# EAGLE library part UA9638CP (library copied_new_footprints)
DIFFERENTIAL LINE DRIVER
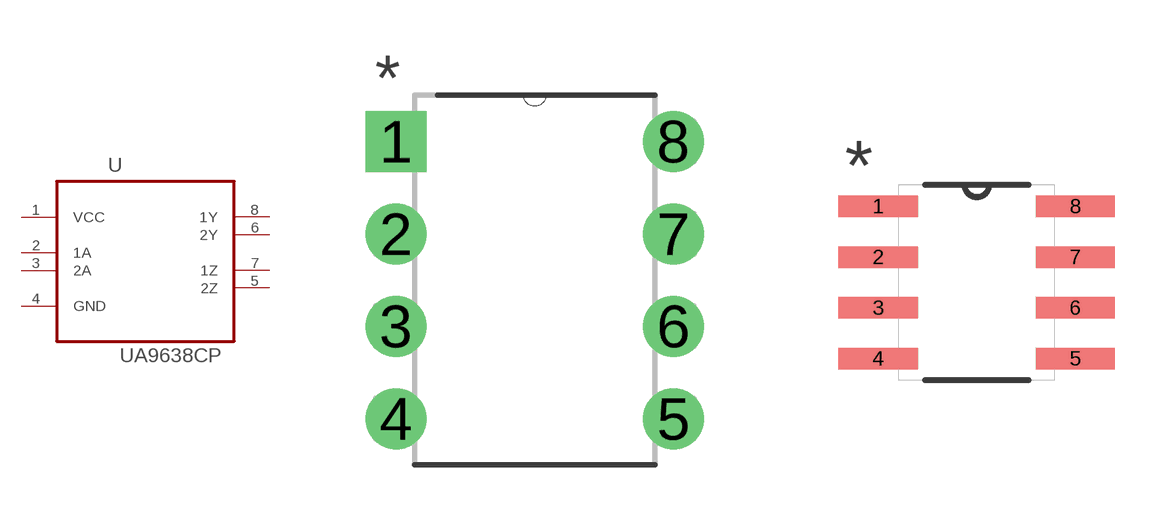
[diagram p1: symbol with the pads of DIP254P762X508-8; footprints DIP254P762X508-8, SOIC127P600X272-8N]

Designator prefix U

## UA9638CPDIP (MPN: UA9638CP; OC_FARNELL: -; OC_NEWARK: 60K7047; PACKAGE: PDIP; SUPPLIER: Texas Instruments)  [DIP254P762X508-8]
1  VCC  pwr
2  1A  in
3  2A  in
4  GND  pas
5  2Z  out
6  2Y  out
7  1Z  out
8  1Y  out

## UA9638CP  [SOIC127P600X272-8N]
Pads as for DIP254P762X508-8

## Footprint DIP254P762X508-8 (pad centres in mm)
drill 1.118 square: 1 -7.62,7.62
drill 1.118: 2 -7.62,5.08; 3 -7.62,2.54; 4 -7.62,0; 5 0,0; 6 0,2.54; 7 0,5.08; 8 0,7.62

## Footprint SOIC127P600X272-8N (pad centres in mm)
smd 1.981 x 0.533: 1 -2.464,1.905; 2 -2.464,0.635; 3 -2.464,-0.635; 4 -2.464,-1.905; 5 2.464,-1.905; 6 2.464,-0.635; 7 2.464,0.635; 8 2.464,1.905